# EAGLE library part HSMS-286 (library custom)
RF Detector Diode Dual 4V 0.25pF
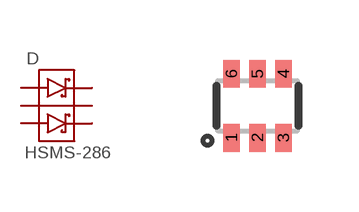
[diagram p59: symbol with the pads of SOT-363; footprint SOT-363]

Designator prefix D

## HSMS-286  [SOT-363]
1  A1  pas
2  GND  pas
3  A2  pas
4  K2  pas
5  GND  pas
6  K1  pas

## Footprint SOT-363 (pad centres in mm)
smd 0.42 x 0.7: 1 -0.65,-0.8; 2 0,-0.8; 3 0.65,-0.8; 4 0.65,0.8; 5 0,0.8; 6 -0.65,0.8